# Altium footprint library KP_Fedorov_SM5-71B.PcbLib: 17 footprints (part 2 of 2)
Each footprint in its own frame and in the unit in brackets; x right, y up, seen from the top. Pads: shape width x height; smd on the part's side, far side on the other; paste and mask are expansions set on the pad; w line width, h text height; cw(c..) or ccw(c..) is an arc to the next point about the centre after c.
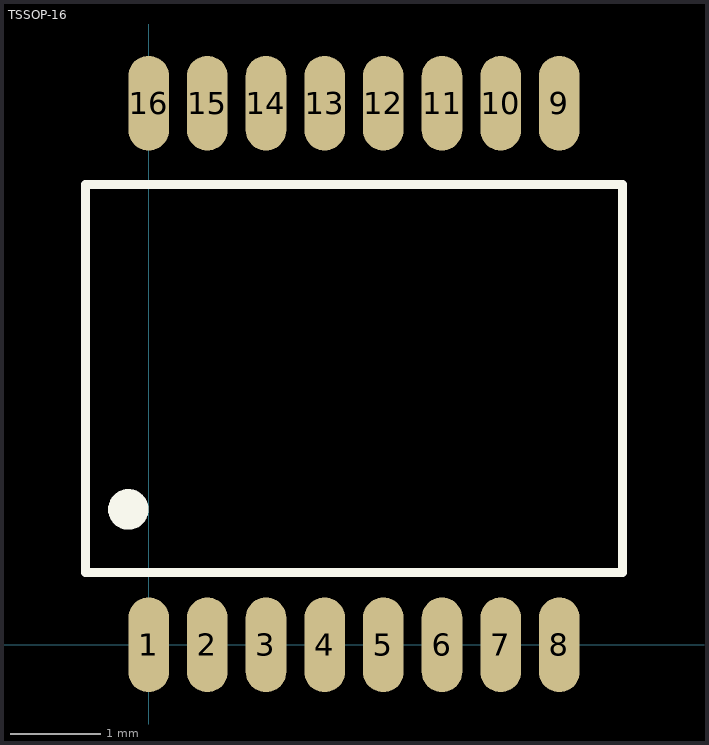
[diagram p1: the footprint, top view; thin cyan lines are the x and y axes]

## TSSOP-16 [mm]
pads (17):
  oval 0.45x1.05 smd paste+0 mask+0.1: 1(0,0) 1(0,0) 2(0.65,0) 3(1.3,0) 4(1.95,0) 5(2.6,0) 6(3.25,0) 7(3.9,0) 8(4.55,0) 9(4.55,6) 10(3.9,6) 11(3.25,6) 12(2.6,6) 13(1.95,6) 14(1.3,6) 15(0.65,6) 16(0,6)
Top Overlay:
  circle w0.25: c-0.225,1.5 r0.1
  lines w0.1: -0.7,0.8 5.25,0.8 5.25,5.1 -0.7,5.1 -0.7,0.8
3D body "User Library-TSSOP-16-1.STEP": height 1.1, standoff 0, extent -0.25,-0.2 4.75,6.2